# Altium schematic symbol library SchLib.SchLib: 2 symbols
Pins are listed as number, name and electrical type; pins without a type are passive.

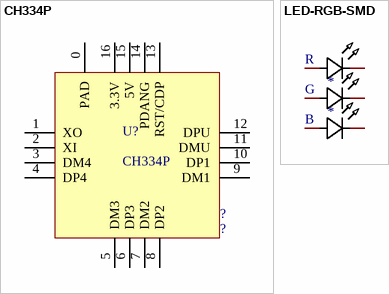
[diagram p0: symbols CH334P to LED-RGB-SMD]

## CH334P
designator U?
S/N: ?; F/p: ?
footprint QFN-16
pins: 0 PAD, 1 XO, 2 XI, 3 DM4, 4 DP4, 5 DM3, 6 DP3, 7 DM2, 8 DP2, 9 DM1, 10 DP1, 11 DMU, 12 DPU, 13 RST/CDP, 14 PDANG, 15 5V, 16 3.3V

## LED-RGB-SMD
designator *
pins: 1 R, 2 G, 3 B, 4 -, 5 -, 6 -